# Altium footprint library DC2527A(A,B)-3.PcbLib: 19 footprints (part 1 of 2)
Each footprint in its own frame and in the unit in brackets; x right, y up, seen from the top. Pads: shape width x height; smd on the part's side, far side on the other; paste and mask are expansions set on the pad; w line width, h text height; cw(c..) or ccw(c..) is an arc to the next point about the centre after c.
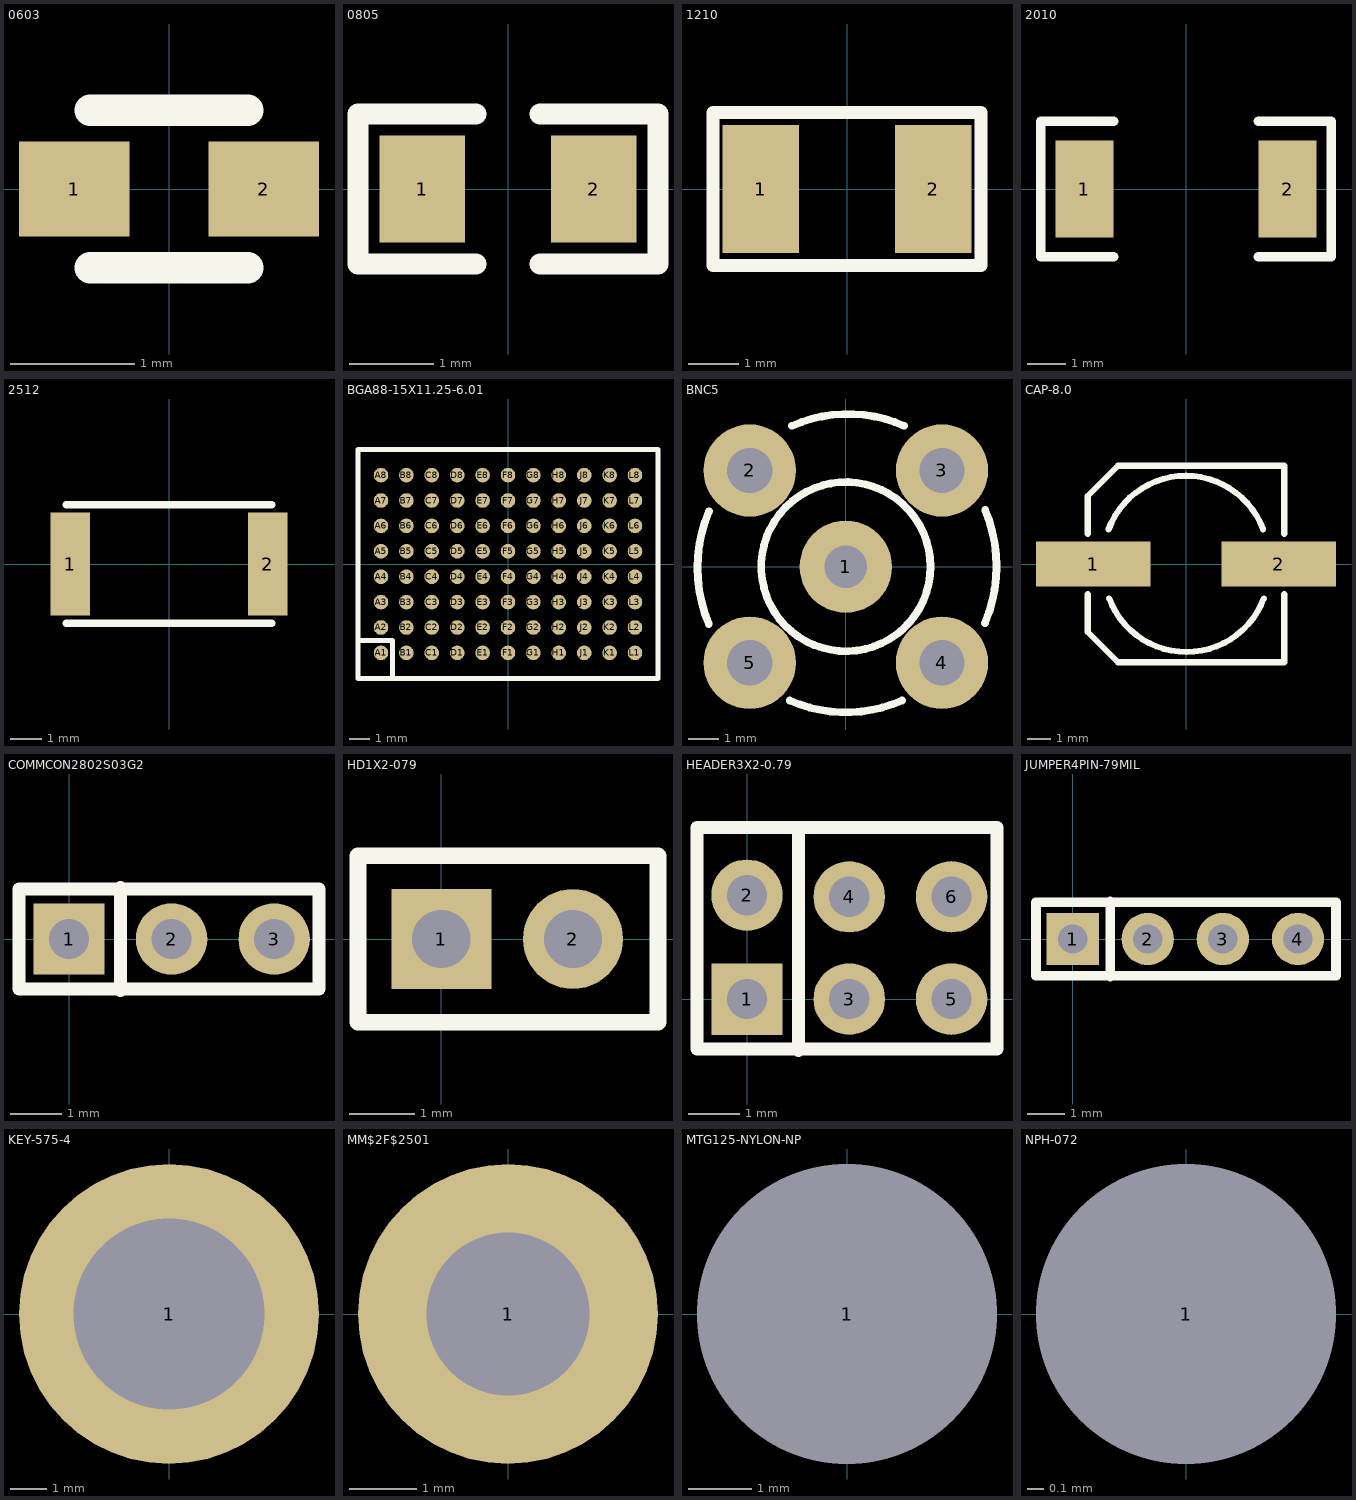
[diagram p0: the footprints below, top view; thin cyan lines are the x and y axes]

## 0603 [mil]
pads (2):
  rect 35x30 smd: 1(-30,0) 2(30,0)
Top Overlay:
  lines w10: -25,-25 25,-25 ; -25,25 25,25

## 0805 [mil]
pads (2):
  rect 40x50 smd: 1(-40,0) 2(40,0)
Top Overlay:
  lines w10: -15,-35 -70,-35 -70,35 -15,35 ; 15,-35 70,-35 70,35 15,35

## 1210 [mil]
pads (2):
  rect 60x100 smd: 1(-67.5,0) 2(67.5,0)
Top Overlay:
  lines w10: -105,-60 105,-60 105,60 -105,60 -105,-60

## 2010 [mil]
pads (2):
  rect 60x100 smd: 1(-105,0) 2(105,0)
Top Overlay:
  lines w10: -75,-70 -150,-70 -150,70 -75,70 ; 75,-70 150,-70 150,70 75,70

## 2512 [mil]
pads (2):
  rect 50x130 smd: 1(-125,0) 2(125,0)
Top Overlay:
  lines w10: -130,-75 130,-75 ; -130,75 130,75

## BGA88-15X11.25-6.01 [mm]
pads (88):
  round 0.73 smd: A1(-6.35,-4.445) A2(-6.35,-3.175) A3(-6.35,-1.905) A4(-6.35,-0.635) A5(-6.35,0.635) A6(-6.35,1.905) A7(-6.35,3.175) A8(-6.35,4.445) B1(-5.08,-4.445) B2(-5.08,-3.175) B3(-5.08,-1.905) B4(-5.08,-0.635) B5(-5.08,0.635) B6(-5.08,1.905) B7(-5.08,3.175) B8(-5.08,4.445) C1(-3.81,-4.445) C2(-3.81,-3.175) C3(-3.81,-1.905) C4(-3.81,-0.635) C5(-3.81,0.635) C6(-3.81,1.905) C7(-3.81,3.175) C8(-3.81,4.445) D1(-2.54,-4.445) D2(-2.54,-3.175) D3(-2.54,-1.905) D4(-2.54,-0.635) D5(-2.54,0.635) D6(-2.54,1.905) D7(-2.54,3.175) D8(-2.54,4.445) E1(-1.27,-4.445) E2(-1.27,-3.175) E3(-1.27,-1.905) E4(-1.27,-0.635) E5(-1.27,0.635) E6(-1.27,1.905) E7(-1.27,3.175) E8(-1.27,4.445) F1(0,-4.445) F2(0,-3.175) F3(0,-1.905) F4(0,-0.635) F5(0,0.635) F6(0,1.905) F7(0,3.175) F8(0,4.445) G1(1.27,-4.445) G2(1.27,-3.175) G3(1.27,-1.905) G4(1.27,-0.635) G5(1.27,0.635) G6(1.27,1.905) G7(1.27,3.175) G8(1.27,4.445) H1(2.54,-4.445) H2(2.54,-3.175) H3(2.54,-1.905) H4(2.54,-0.635) H5(2.54,0.635) H6(2.54,1.905) H7(2.54,3.175) H8(2.54,4.445) J1(3.81,-4.445) J2(3.81,-3.175) J3(3.81,-1.905) J4(3.81,-0.635) J5(3.81,0.635) J6(3.81,1.905) J7(3.81,3.175) J8(3.81,4.445) K1(5.08,-4.445) K2(5.08,-3.175) K3(5.08,-1.905) K4(5.08,-0.635) K5(5.08,0.635) K6(5.08,1.905) K7(5.08,3.175) K8(5.08,4.445) L1(6.35,-4.445) L2(6.35,-3.175) L3(6.35,-1.905) L4(6.35,-0.635) L5(6.35,0.635) L6(6.35,1.905) L7(6.35,3.175) L8(6.35,4.445)
Top Overlay:
  lines w0.254: -7.493,-3.835 -5.765,-3.835 -5.765,-5.715 ; -7.5,-5.715 -7.5,5.715 7.5,5.715 7.5,-5.715 -7.5,-5.715

## BNC5 [mil]
pads (5):
  round 120 hole 55: 1(0,0)
  round 120 hole 59: 2(-125,125) 3(125,125) 4(125,-125) 5(-125,-125)
Top Overlay:
  circle w10: c0,0 r110
  lines w10: -178.06,-74.85 cw(c-2.72,-1.5) -177.94,72.15 ; -73,-174 ccw(c0,-9.27) 73,-174 ; -70,183 cw(c3,18.27) 76,183 ; 180.94,-73.15 ccw(c5.72,0.5) 181.06,73.85

## CAP-8.0 [mm]
pads (2):
  rect 4.8x1.905 smd: 1(-3.9,0) 2(3.9,0)
Top Overlay:
  lines w0.254: -4.127,-1.27 -4.127,-2.857 -2.857,-4.127 4.127,-4.127 4.127,-1.27 ; -4.127,1.27 -4.127,2.857 -2.857,4.127 4.127,4.127 4.127,1.27 ; -3.257,1.448 cw(c-0.007,0.239) 3.242,1.448 ; -3.228,-1.44 ccw(c0.021,-0.232) 3.27,-1.44

## COMMCON2802S03G2 [mil]
pads (3):
  rect 55x55 / inner round 55 / far side rect 55x55 hole 31: 1(0,0)
  round 55 hole 31: 2(79,0) 3(158,0)
Top Overlay:
  lines w10: 39.5,-39.5 39.5,39.5 ; -38.5,-38.5 192.5,-38.5 192.5,38.5 -38.5,38.5 -38.5,-38.5

## HD1X2-079 [mil]
pads (2):
  rect 60x60 hole 35: 1(0,0)
  round 60 hole 35: 2(79,0)
Top Overlay:
  lines w10: -50,-50 130,-50 130,50 -50,50 -50,-50

## HEADER3X2-0.79 [mil]
pads (6):
  rect 55x55 / inner oval 55.04x55 / far side rect 55x55 hole 31: 1(0,0)
  oval 55.04x55 hole 31: 2(0,80) 3(78.74,0) 4(78.74,78.74) 5(157.48,0) 6(157.48,78.74)
Top Overlay:
  lines w10: 39.5,-39.5 39.5,132 ; -38.5,-38.5 192.5,-38.5 192.5,132 -38.5,132 -38.5,-38.5

## JUMPER4PIN-79MIL [mil]
pads (4):
  rect 55x55 / inner round 55 / far side rect 55x55 hole 31: 1(0,0)
  round 55 hole 31: 2(79,0) 3(158,0) 4(237,0)
Top Overlay:
  lines w10: 39.5,-39.5 39.5,39.5 ; -38.5,-38.5 277,-38.5 277,38.5 -38.5,38.5 -38.5,-38.5

## KEY-575-4 [mil]
pads (1):
  round 325 hole 207: 1(0,0)

## MM$2F$2501 [mil]
pads (1):
  round 175 hole 95: 1(0,0)

## MTG125-NYLON-NP [mil]
pads (1):
  round 185 hole 187 unplated: 1(0,0)

## NPH-072 [mil]
pads (1):
  round 68 / inner round 80 / far side round 68 hole 70 unplated: 1(0,0)